# Altium schematic symbol library Buzzer.Schlib: 1 symbol
Pins are listed as number, name and electrical type; pins without a type are passive.

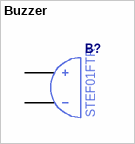
[diagram p0: symbol Buzzer]

## Buzzer
designator B?  Manufacturer Part Number: STEF01FTR  (hidden comment: Buzzer)
pins: 1, 2